# EAGLE library part MC1458 (library El14_AudioServo)
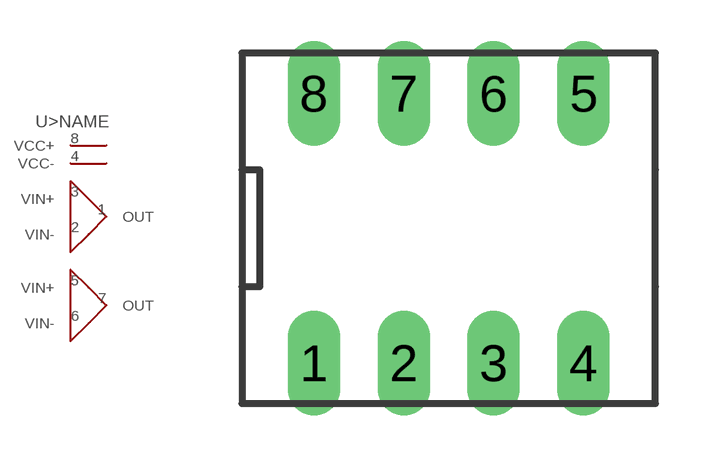
[diagram p0: symbol with the pads of DIP8; footprint DIP8]

Designator prefix -; gates AMP1=OPAMP AMP2=OPAMP >NAME=VCC+-

## MC1458 (DK: 296-1403-5-ND; PARTNO: MC1458P)  [DIP8]
1  AMP1:OUT
2  AMP1:VIN-
3  AMP1:VIN+
4  >NAME:VCC-
5  AMP2:VIN+
6  AMP2:VIN-
7  AMP2:OUT
8  >NAME:VCC+

## Footprint DIP8 (pad centres in mm)
drill 0.97 long: 1 -5.08,-3.81; 2 -2.54,-3.81; 3 0,-3.81; 4 2.54,-3.81; 5 2.54,3.81; 6 0,3.81; 7 -2.54,3.81; 8 -5.08,3.81